# Altium footprint library SW_KSJ-M.PcbLib: 1 footprints
Each footprint in its own frame and in the unit in brackets; x right, y up, seen from the top. Pads: shape width x height; smd on the part's side, far side on the other; paste and mask are expansions set on the pad; w line width, h text height; cw(c..) or ccw(c..) is an arc to the next point about the centre after c.
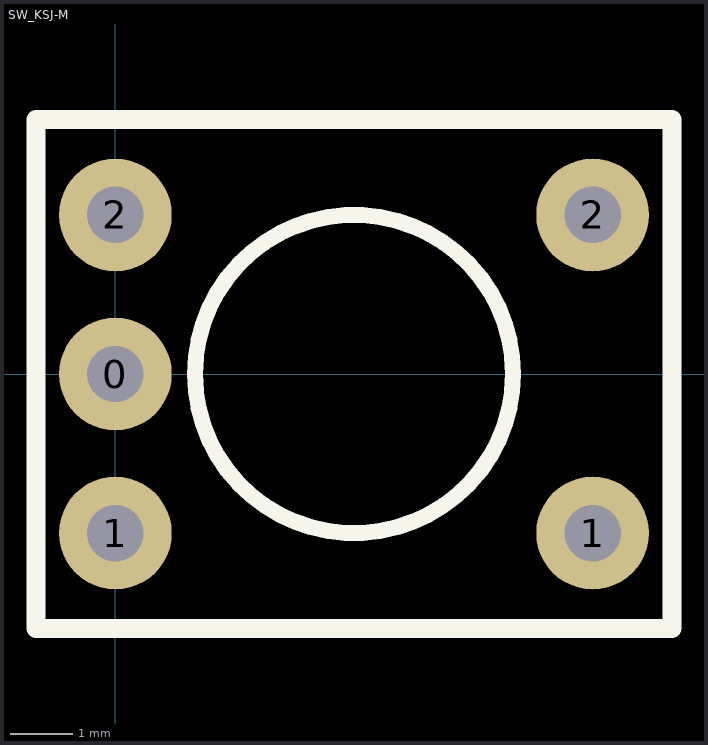
[diagram p0: the footprint, top view; thin cyan lines are the x and y axes]

## SW_KSJ-M [mm] "C&K SPST switch"
pads (5):
  round 1.8 hole 0.9: 0(0,0) 1(0,-2.54) 1(7.62,-2.54) 2(0,2.54) 2(7.62,2.54)
Top Overlay:
  circle w0.254: c3.81,0 r2.54
  lines w0.305: -1.27,-4.064 -1.27,4.064 8.89,4.064 8.89,-4.064 -1.27,-4.064
3D body: height 6.63, standoff -4.19, extent -0.652,-3.696 8.272,3.696